# Altium footprint library 最新MT7688A测试板开发板库文件(AD打开).PcbLib: 28 footprints (part 1 of 2)
Each footprint in its own frame and in the unit in brackets; x right, y up, seen from the top. Pads: shape width x height; smd on the part's side, far side on the other; paste and mask are expansions set on the pad; w line width, h text height; cw(c..) or ccw(c..) is an arc to the next point about the centre after c.
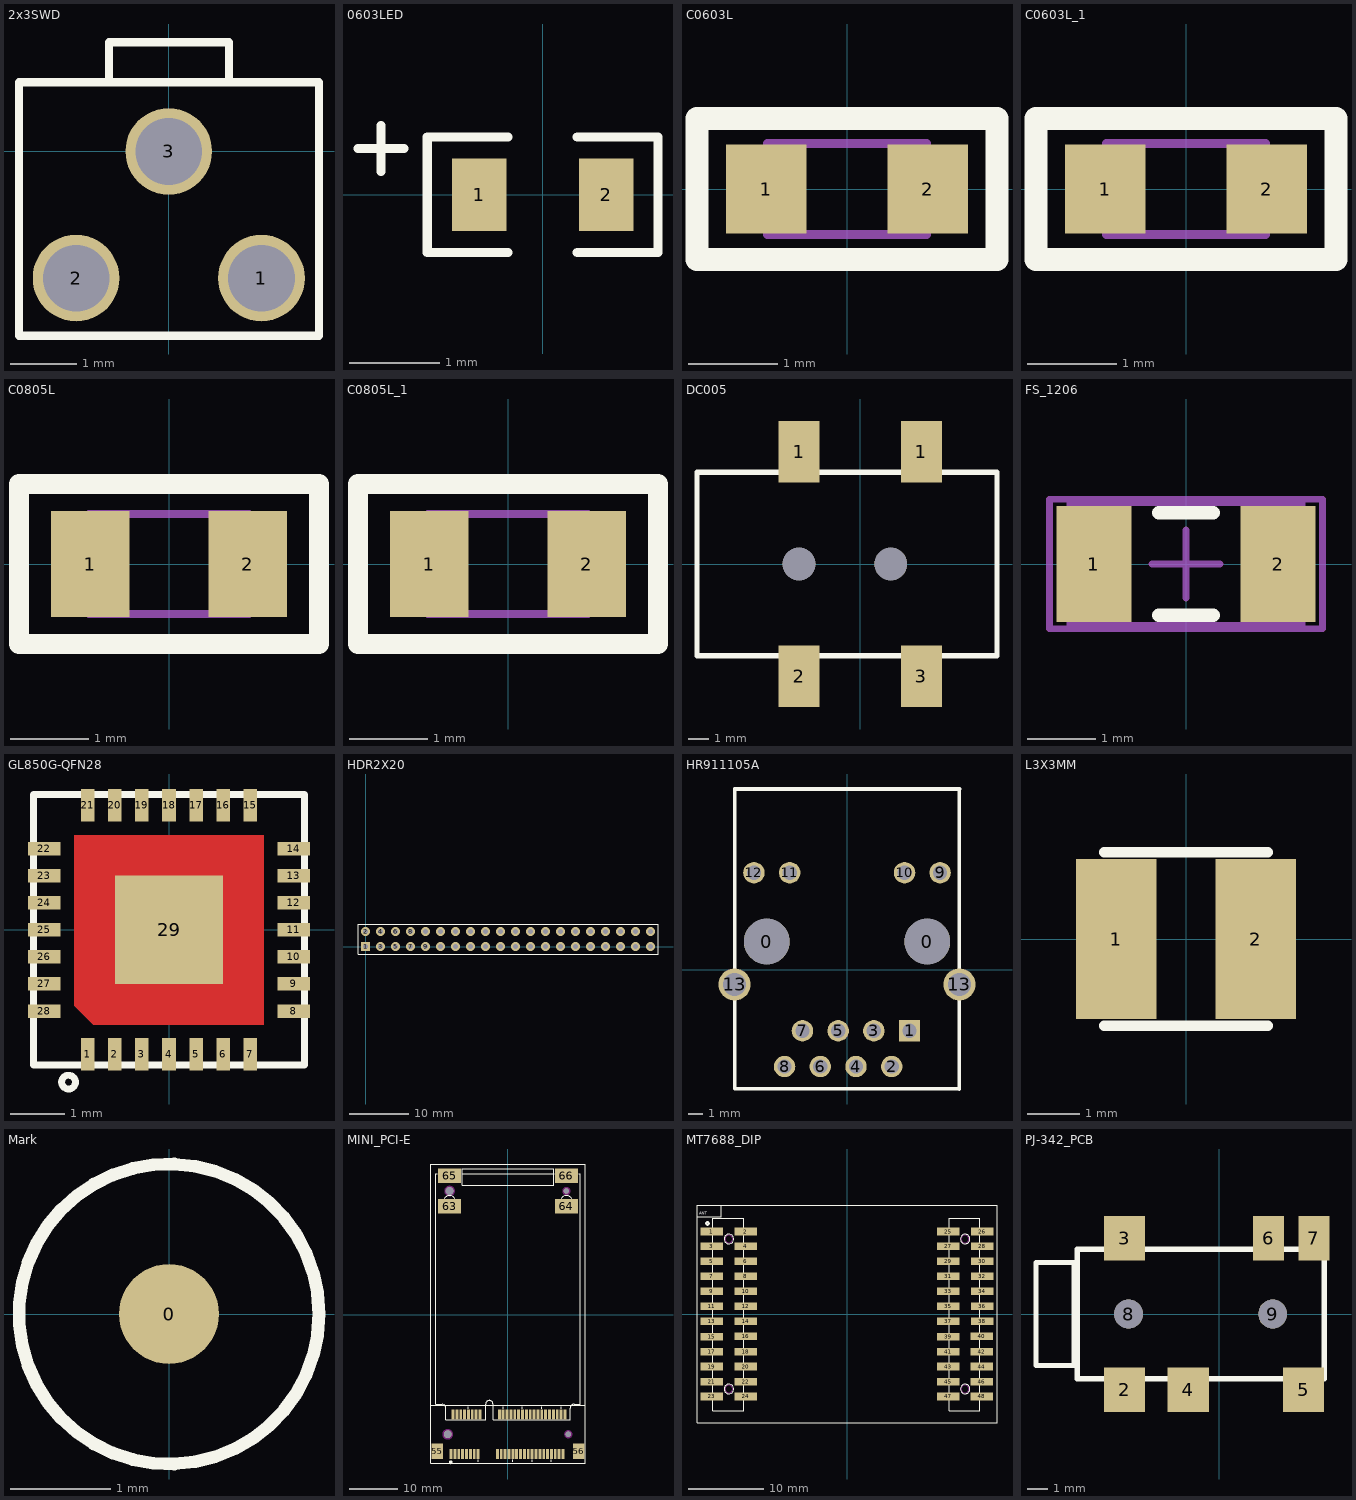
[diagram p0: the footprints below, top view; thin cyan lines are the x and y axes]

## 2x3SWD [mm]
height 5.08
pads (3):
  round 1.3 hole 1: 1(1.39,-1.9) 2(-1.39,-1.9) 3(0,0)
Top Overlay:
  lines w0.127: -0.896,1.036 -0.896,1.636 0.904,1.636 0.904,1.036 ; -2.246,-2.764 -2.246,1.036 2.254,1.036 2.254,-2.764 -2.246,-2.764

## 0603LED [mm]
height 5.08
pads (2):
  rect 0.6x0.8 smd: 1(-0.7,0) 2(0.7,0)
Top Overlay:
  lines w0.1: -2.032,0.508 -1.524,0.508 ; -1.778,0.254 -1.778,0.762 ; -0.381,-0.635 -1.27,-0.635 -1.27,0.635 -0.381,0.635 ; 0.381,-0.635 1.27,-0.635 1.27,0.635 0.381,0.635

## C0603L [mm] "Chip Inductor; Body 1.6x0.8mm (LxW typ)"
height 5.08
pads (2):
  rect 0.9x1 smd: 1(-0.9,0) 2(0.9,0)
Top Overlay:
  lines w0.254: -1.676,-0.787 -1.676,0.787 ; -1.651,-0.787 1.676,-0.787 1.676,0.787 -1.651,0.787
Mechanical 13:
  lines w0.1: -0.889,-0.508 0.889,-0.508 0.889,0.508 -0.889,0.508 -0.889,-0.508
3D body: height 0.7, standoff 0, extent -0.8,-0.4 0.8,0.4

## C0603L_1 [mm] "Chip Inductor; Body 1.6x0.8mm (LxW typ)"
height 5.08
pads (2):
  rect 0.9x1 smd: 1(-0.9,0) 2(0.9,0)
Top Overlay:
  lines w0.254: -1.676,-0.787 -1.676,0.787 ; -1.651,-0.787 1.676,-0.787 1.676,0.787 -1.651,0.787
Mechanical 13:
  lines w0.1: -0.889,-0.508 0.889,-0.508 0.889,0.508 -0.889,0.508 -0.889,-0.508
3D body: height 0.7, standoff 0, extent -0.8,-0.4 0.8,0.4

## C0805L [mm] "Chip Inductor; Body 2.0x1.2mm (LxW typ)"
pads (2):
  rect 1x1.35 smd mask+0.075: 1(-1,0) 2(1,0)
Top Overlay:
  lines w0.254: -1.905,-1.016 -1.905,1.016 1.905,1.016 1.905,-1.016 -1.905,-1.016
Mechanical 13:
  lines w0.1: -1.016,-0.635 1.016,-0.635 1.016,0.635 -1.016,0.635 -1.016,-0.635
3D body "SW3dPS-0805 SMD Capacitor.STEP": height 0.78, standoff 0, extent -0.975,-0.625 1.025,0.625

## C0805L_1 [mm] "Chip Inductor; Body 2.0x1.2mm (LxW typ)"
height 5.08
pads (2):
  rect 1x1.35 smd: 1(-1,0) 2(1,0)
Top Overlay:
  lines w0.254: -1.905,-1.016 -1.905,1.016 1.905,1.016 1.905,-1.016 -1.905,-1.016
Mechanical 13:
  lines w0.1: -1.016,-0.635 1.016,-0.635 1.016,0.635 -1.016,0.635 -1.016,-0.635
3D body: height 0.78, standoff 0, extent -0.975,-0.625 1.025,0.625

## DC005 [mm]
pads (6):
  rect 2x3 smd: 1(-3,5.5) 1(3,5.5) 2(-3,-5.5) 3(3,-5.5)
  round 1.6 hole 1.6 unplated: ""(-3,0) ""(1.5,0)
Top Overlay:
  lines w0.254: -8,-4.5 -8,4.5 6.7,4.5 6.7,-4.5 -8,-4.5

## FS_1206 [mm]
pads (2):
  rect 1.1x1.7 smd: 1(-1.35,0) 2(1.35,0)
Top Overlay:
  lines w0.2: -0.4,-0.75 0.4,-0.75 ; -0.4,0.75 0.4,0.75
Mechanical 13:
  lines w0.1: -1.7,-0.9 -1.7,0.9 1.7,0.9 1.7,-0.9 -1.7,-0.9
Mechanical 15:
  lines w0.1: -0.5,0 0.5,0 ; 0,-0.5 0,0.5 ; -2,-0.95 -2,0.95 2,0.95 2,-0.95 -2,-0.95
3D body: height 1.3, standoff 0, extent -1.7,-0.9 1.7,0.9

## GL850G-QFN28 [mm]
height 5.08
pads (29):
  rect 0.25x0.6 smd: 1(-1.5,-2.3) 2(-1,-2.3) 3(-0.5,-2.3) 4(0,-2.3) 5(0.5,-2.3) 6(1,-2.3) 7(1.5,-2.3) 15(1.5,2.3) 16(1,2.3) 17(0.5,2.3) 18(0,2.3) 19(-0.5,2.3) 20(-1,2.3) 21(-1.5,2.3)
  rect 0.6x0.25 smd: 8(2.3,-1.5) 9(2.3,-1) 10(2.3,-0.5) 11(2.3,0) 12(2.3,0.5) 13(2.3,1) 14(2.3,1.5) 22(-2.3,1.5) 23(-2.3,1) 24(-2.3,0.5) 25(-2.3,0) 26(-2.3,-0.5) 27(-2.3,-1) 28(-2.3,-1.5)
  rect 2x2 smd: 29(0,0)
Top Layer:
  region: -1.75,1.75 1.75,1.75 1.75,-1.75 -1.4,-1.75 -1.75,-1.4
Top Overlay:
  circle w0.127: c-1.855,-2.812 r0.127
  lines w0.127: -2.5,-2.5 2.5,-2.5 2.5,2.5 -2.5,2.5 -2.5,-2.5
Mechanical 1:
  lines w0.01: -2.5,-2.5 2.5,-2.5 2.5,2.5 -2.5,2.5 -2.5,-2.5

## HDR2X20 [mm] "Connector; Header; 20x2 Position"
height 5.08
pads (40):
  rect 1.5x1.5 hole 0.9: 1(0,0)
  round 1.5 hole 0.9: 2(0,2.54) 3(2.54,0) 4(2.54,2.54) 5(5.08,0) 6(5.08,2.54) 7(7.62,0) 8(7.62,2.54) 9(10.16,0) 10(10.16,2.54) 11(12.7,0) 12(12.7,2.54) 13(15.24,0) 14(15.24,2.54) 15(17.78,0) 16(17.78,2.54) 17(20.32,0) 18(20.32,2.54) 19(22.86,0) 20(22.86,2.54) 21(25.4,0) 22(25.4,2.54) 23(27.94,0) 24(27.94,2.54) 25(30.48,0) 26(30.48,2.54) 27(33.02,0) 28(33.02,2.54) 29(35.56,0) 30(35.56,2.54) 31(38.1,0) 32(38.1,2.54) 33(40.64,0) 34(40.64,2.54) 35(43.18,0) 36(43.18,2.54) 37(45.72,0) 38(45.72,2.54) 39(48.26,0) 40(48.26,2.54)
Top Overlay:
  lines w0.2: -1.27,-1.27 49.53,-1.27 49.53,3.81 -1.27,3.81 -1.27,-1.27

## HR911105A [mil]
height 200
pads (16):
  round 127.95 hole 127.95: 0(-224.8,78.54) 0(225.2,78.54)
  rect 60x60 hole 40: 1(175.2,-171.46)
  round 60 hole 40: 2(125.2,-271.46) 3(75.2,-171.46) 4(25.2,-271.46) 5(-24.8,-171.46) 6(-74.8,-271.46) 7(-124.8,-171.46) 8(-174.8,-271.46) 9(260.83,271.46) 10(161.2,271.46) 11(-160.67,271.46) 12(-260.8,271.46)
  round 90 hole 65: 13(-314.96,-41.54) 13(314.96,-41.54)
Top Overlay:
  lines w10: -314.96,-334.06 314.88,-334.06 ; -314.96,-332.3 -314.96,-51.54 -314.96,505.79 -314.8,505.95 315.2,505.95 314.96,505.71 314.96,-51.54 314.96,-334.46
3D body: height 535.43, standoff -114.17, extent -312,-331.72 313.2,510.8

## L3X3MM [mil] "L3X3MM"
height 35.43
pads (2):
  rect 60x120 smd: 1(-52.16,0) 2(52.16,0)
Top Overlay:
  lines w7.87: -61.02,-64.96 61.02,-64.96 ; -61.02,64.96 61.02,64.96

## Mark [mm] "1-3Rmm"
height 1.3
pads (1):
  round 1 smd mask+0.102: 0(0,0)
Top Overlay:
  circle w0.127: c0,0 r1.5

## MINI_PCI-E [mm]
height 5.08
pads (62):
  rect 0.6x2 smd: 1(-11.8,-28.825) 2(-11.4,-20.625) 3(-11,-28.825) 4(-10.6,-20.625) 5(-10.2,-28.825) 6(-9.8,-20.625) 7(-9.4,-28.825) 8(-9,-20.625) 9(-8.6,-28.825) 10(-8.2,-20.625) 11(-7.8,-28.825) 12(-7.4,-20.625) 13(-7,-28.825) 14(-6.6,-20.625) 15(-6.2,-28.825) 16(-5.8,-20.625) 17(-2.2,-28.825) 18(-1.8,-20.625) 19(-1.4,-28.825) 20(-1,-20.625) 21(-0.6,-28.825) 22(-0.2,-20.625) 23(0.2,-28.825) 24(0.6,-20.625) 25(1,-28.825) 26(1.4,-20.625) 27(1.8,-28.825) 28(2.2,-20.625) 29(2.6,-28.825) 30(3,-20.625) 31(3.4,-28.825) 32(3.8,-20.625) 33(4.2,-28.825) 34(4.6,-20.625) 35(5,-28.825) 36(5.4,-20.625) 37(5.8,-28.825) 38(6.2,-20.625) 39(6.6,-28.825) 40(7,-20.625) 41(7.4,-28.825) 42(7.8,-20.625) 43(8.2,-28.825) 44(8.6,-20.625) 45(9,-28.825) 46(9.4,-20.625) 47(9.8,-28.825) 48(10.2,-20.625) 49(10.6,-28.825) 50(11,-20.625) 51(11.4,-28.825) 52(11.8,-20.625)
  round 1.6 hole 1.6 unplated: 53(-12.5,-24.725) 67(-12.1,25.675)
  round 1.1 hole 1.1 unplated: 54(12.5,-24.725) 68(12.1,25.675)
  rect 2.3x3.2 smd: 55(-14.65,-28.225) 56(14.65,-28.225)
  rect 4.8x3 smd: 63(-12.1,22.525) 64(12.1,22.525) 65(-12.1,28.825) 66(12.1,28.825)
Top Overlay:
  region: -11.516,-30.542 -11.517,-30.517 -11.52,-30.492 -11.524,-30.468 -11.53,-30.444 -11.538,-30.421 -11.547,-30.398 -11.558,-30.376 -11.571,-30.355 -11.585,-30.334 -11.601,-30.315 -11.617,-30.297 -11.635,-30.28 -11.655,-30.265 -11.675,-30.251 -11.696,-30.238 -11.718,-30.227 -11.741,-30.218 -11.764,-30.21 -11.788,-30.204 -11.813,-30.199 -11.837,-30.197 -11.862,-30.196 -11.886,-30.197 -11.911,-30.199 -11.935,-30.204 -11.959,-30.21 -11.983,-30.218 -12.005,-30.227 -12.027,-30.238 -12.049,-30.251 -12.069,-30.265 -12.088,-30.28 -12.106,-30.297 -12.123,-30.315 -12.139,-30.334 -12.153,-30.355 -12.165,-30.376 -12.176,-30.398 -12.186,-30.421 -12.193,-30.444 -12.2,-30.468 -12.204,-30.492 -12.207,-30.517 -12.207,-30.542 -12.207,-30.566 -12.204,-30.591 -12.2,-30.615 -12.193,-30.639 -12.186,-30.662 -12.176,-30.685 -12.165,-30.707 -12.153,-30.728 -12.139,-30.749 -12.123,-30.768 -12.106,-30.786 -12.088,-30.803 -12.069,-30.818 -12.049,-30.832 -12.027,-30.845 -12.005,-30.856 -11.983,-30.866 -11.959,-30.873 -11.935,-30.879 -11.911,-30.884 -11.886,-30.886 -11.862,-30.887 -11.837,-30.886 -11.813,-30.884 -11.788,-30.879 -11.764,-30.873 -11.741,-30.866 -11.718,-30.856 -11.696,-30.845 -11.675,-30.832 -11.655,-30.818 -11.635,-30.803 -11.617,-30.786 -11.601,-30.768 -11.585,-30.749 -11.571,-30.728 -11.558,-30.707 -11.547,-30.685 -11.538,-30.662 -11.53,-30.639 -11.524,-30.615 -11.52,-30.591 -11.517,-30.566
  lines w0.127: -16,7.125 -16,-30.725 ; -15,5.075 -15,-18.525 ; -14.65,29.225 -15,29.225 -15,-18.525 ; -13.2,24.125 cw(c-12.1,23.417) -11,24.125 ; -9.6,29.225 9.55,29.225 ; -8.2,-19.425 -8.2,-19.025 ; -6.2,-30.425 -6.2,-30.025 ; -1,-19.425 -1,-19.025 ; 1,-30.425 1,-30.025 ; 3,-19.425 3,-19.025 ; 5,-30.425 5,-30.025 ; 7,-19.425 7,-19.025 ; 9,-30.425 9,-30.025 ; 11,-19.425 11,-19.025 ; 11,24.125 cw(c12.1,23.417) 13.2,24.125 ; 14.65,29.225 15,29.225 15,-18.525 ; 15,5.075 15,-18.525 ; 16,7.125 16,-30.725 ; -16,-30.725 16,-30.725 ; -16,-30.725 -16,-18.725 ; -16,-30.725 16,-30.725 ; -16,-30.725 16,-30.725 ; -16,-30.725 -16,31.275 16,31.275 16,-30.725 ; -16,-30.725 16,-30.725 ; -16,-30.725 -16,-18.725 ; -16,-18.725 16,-18.725 ; -16,-18.725 16,-18.725 ; -15,-18.525 -13.61,-18.525 ; -15,-18.525 -13.61,-18.525 ; -13.611,-18.525 cw(c-13.637,-19.312) -12.85,-19.275 ; -13.611,-18.525 cw(c-13.637,-19.312) -12.85,-19.275 ; -12.85,-21.725 -12.85,-19.275 ; -12.85,-21.725 -4.6,-21.725 ; -12.85,-21.725 -12.85,-19.275 ; -12.85,-21.725 -4.6,-21.725 ; -4.6,-21.725 -4.6,-18.475 ; -4.6,-21.725 -4.6,-18.475 ; -4.6,-18.475 cw(c-3.85,-18.475) -3.1,-18.475 ; -4.6,-18.475 cw(c-3.85,-18.475) -3.1,-18.475 ; -3.1,-21.725 -3.1,-18.475 ; -3.1,-21.725 12.9,-21.725 ; -3.1,-21.725 -3.1,-18.475 ; -3.1,-21.725 12.9,-21.725 ; 12.9,-21.725 12.9,-19.325 ; 12.9,-21.725 12.9,-19.325 ; 12.9,-19.325 cw(c13.669,-19.293) 13.71,-18.525 ; 12.9,-19.325 cw(c13.669,-19.293) 13.71,-18.525 ; 13.71,-18.525 15,-18.525 ; 13.71,-18.525 15,-18.525 ; 16,-30.725 16,-18.725 ; 16,-30.725 16,-18.725 ; -9.5,26.825 9.5,26.825 9.5,30.325 -9.5,30.325 -9.5,26.825
Keep-Out Layer:
  drawing of 4 lines, arcs and shapes, not listed

## MT7688_DIP [mm]
height 5.08
pads (48):
  rect 3x1 smd: 1(-18,11) 2(-13.5,11) 3(-18,9) 4(-13.5,9) 5(-18,7) 6(-13.5,7) 7(-18,5) 8(-13.5,5) 9(-18,3) 10(-13.5,3) 11(-18,1) 12(-13.5,1) 13(-18,-1) 14(-13.5,-1) 15(-18,-3) 16(-13.508,-2.997) 17(-18,-5) 18(-13.508,-5) 19(-18,-7) 20(-13.508,-7) 21(-18,-9) 22(-13.508,-9) 23(-18,-11) 24(-13.508,-11) 25(13.5,11) 26(18,11) 27(13.5,9) 28(18,9) 29(13.5,7) 30(18,7) 31(13.5,5) 32(18,5) 33(13.5,3) 34(18,3) 35(13.5,1) 36(18,1) 37(13.5,-1) 38(18,-1) 39(13.5,-3) 40(17.992,-2.997) 41(13.5,-5) 42(17.992,-5) 43(13.5,-7) 44(17.992,-7) 45(13.5,-9) 46(17.992,-9) 47(13.5,-11) 48(17.992,-11)
Top Overlay:
  circle w0.127: c-15.751,9.993 r0.636
  circle w0.127: c-15.75,-9.996 r0.637
  circle w0.254: c-18.6,12.073 r0.18
  circle w0.127: c15.749,9.993 r0.636
  circle w0.127: c15.75,-9.996 r0.637
  lines w0.1: -17.871,-12.885 -17.871,12.756 -13.792,12.756 -13.792,-12.885 -17.871,-12.885 ; 13.629,-12.885 13.629,12.756 17.708,12.756 17.708,-12.885 13.629,-12.885
  lines w0.152: -19.939,12.954 -16.764,12.954 -16.764,14.478 ; -20,-14.5 20,-14.5 20,14.5 -20,14.5 -20,-14.5
  text "ANT" at -19.685,13.208 h0.38
Keep-Out Layer:
  circle w0.127: c15.75,-9.997 r0.508
  circle w0.127: c15.75,9.998 r0.508
  circle w0.127: c-15.75,-9.997 r0.508
  circle w0.127: c-15.75,9.998 r0.508

## PJ-342_PCB [mm]
height 5.08
pads (8):
  rect 2x2.15 smd: 2(-4.6,-3.675) 3(-4.6,3.675) 4(-1.5,-3.675) 5(4.1,-3.675)
  rect 1.5x2.15 smd: 6(2.4,3.675) 7(4.6,3.675)
  round 1.4 hole 1.4: 8(-4.4,0) 9(2.6,0)
Top Overlay:
  lines w0.254: -8.9,-2.5 -8.9,2.5 -7.04,2.5 -7.04,-2.5 -8.9,-2.5 ; -6.9,-3.15 -6.9,3.15 5.1,3.15 5.1,-3.15 -6.9,-3.15